# EAGLE library part TR1000 (library powerfilm)
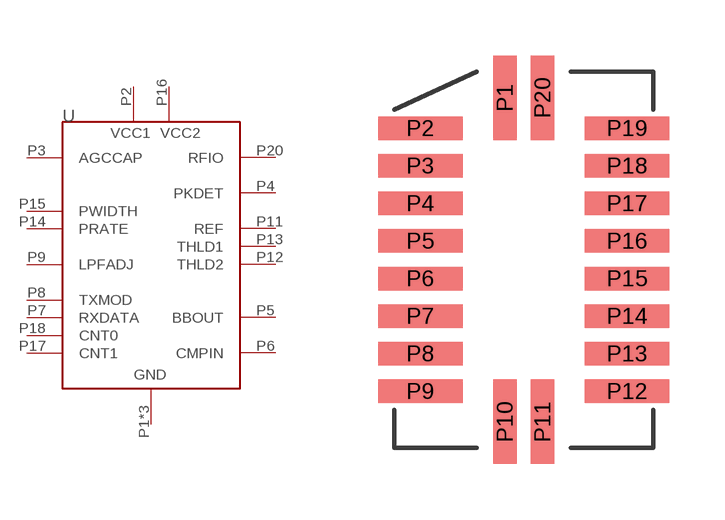
[diagram p5: symbol with the pads of SM-20H; footprint SM-20H]

Designator prefix U

## TR1000 (DIGIKEY: 583-1088-1-ND)  [SM-20H]
P1  GND
P2  VCC1
P3  AGCCAP
P4  PKDET
P5  BBOUT
P6  CMPIN
P7  RXDATA
P8  TXMOD
P9  LPFADJ
P10  GND
P11  REF
P12  THLD2
P13  THLD1
P14  PRATE
P15  PWIDTH
P16  VCC2
P17  CNT1
P18  CNT0
P19  GND
P20  RFIO

## Footprint SM-20H (pad centres in mm)
smd 0.635 x 2.286: P1 -0.508,4.381; P10 -0.508,-4.381; P11 0.508,-4.381; P20 0.508,4.381
smd 2.286 x 0.635: P2 -2.794,3.556; P3 -2.794,2.54; P4 -2.794,1.524; P5 -2.794,0.508; P6 -2.794,-0.508; P7 -2.794,-1.524; P8 -2.794,-2.54; P9 -2.794,-3.556; P12 2.794,-3.556; P13 2.794,-2.54; P14 2.794,-1.524; P15 2.794,-0.508; P16 2.794,0.508; P17 2.794,1.524; P18 2.794,2.54; P19 2.794,3.556